# Altium integrated library EMC_FE_2016.IntLib: 13 symbols
Pins are listed as number, name and electrical type; pins without a type are passive.

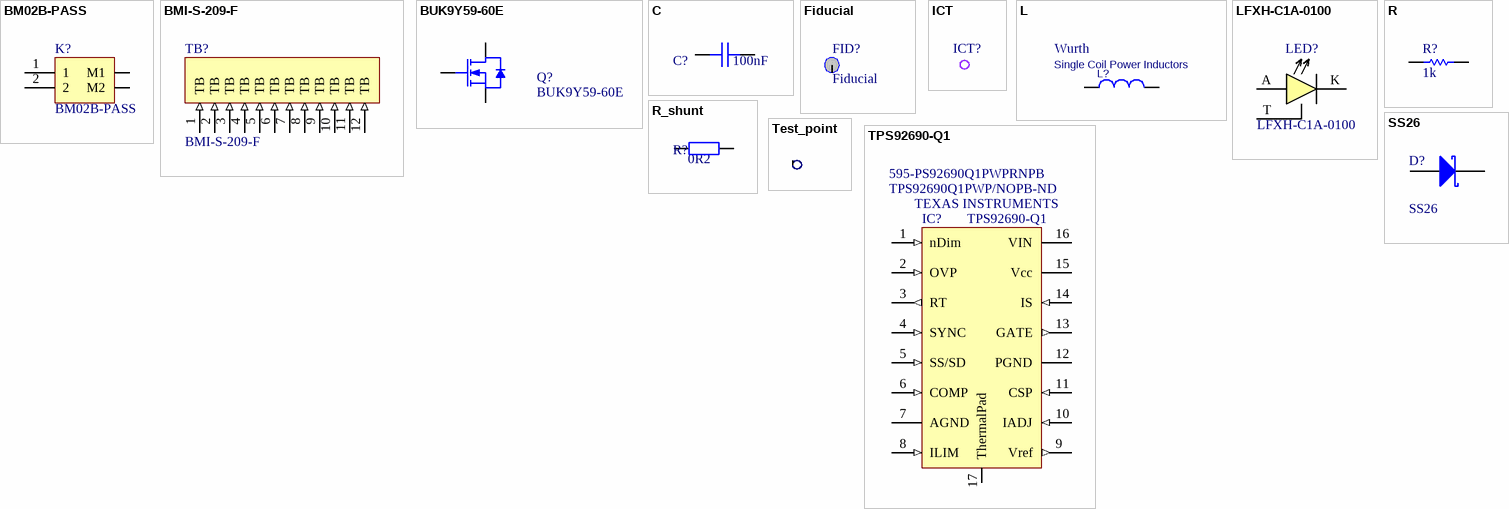
[diagram p0: symbols BM02B-PASS to TPS92690-Q1]

## BM02B-PASS
designator K?
Wire-To-Board Connector, PA Series, Surface Mount, Header, 2, 2 mm, Tin Plated Contacts; Manufacturer: JST (JAPAN SOLDERLESS TERMINALS); Manufacturer Part Number: BM02B-PASS-1-TFT(LF)(SN); No. of Contacts: 2; No. of Rows: 1; Contact Termination: Surface Mount Vertical; Supplier 1: Farnell; RoHS: YES; Product Range: PA Series; Gender: Header; Pitch Spacing: 2; Contact Plating: Tin Plated Contacts; Contact Material: Copper; ComponentLink1URL: http://www.farnell.com/datasheets/1759149.pdf; ComponentLink1Description: Datasheet; Supplier Part Number 1: 2399305
footprint BM02B-PASS (2.0mm pitch/Wire-to-board (Crimp style/IDC))
pins: 1 (power), 2 (power), M1 (power), M2 (power)

## BMI-S-209-F
designator TB?
SURFACE MOUNT,  EMI SHIELD; Manufacturer: LAIRD TECHNOLOGIES; Manufacturer Part Number: BMI-S-209-F; RoHS: YES; ComponentLink1URL: http://www.lairdtech.com/brandworld/library/Board%20Level%20Shields%20Catalog%20Download.pdf; ComponentLink1Description: Datasheet; Supplier 1: Digi-Key; Supplier 2: Digi-Key; Supplier 3: Mouser; Supplier Part Number 1: 903-1185-ND; Supplier Part Number 2: 903-1212-1-ND; Supplier Part Number 3: 739-BMIS-209-F
footprint BMI-S-209-F (Shield)
pins: 1 TB (in) "Connect resistor divider from VIN to set UVLO threshold and hysteresis. Connect through diode or MOSFET to PWM dim concurrently.", 2 TB (in) "Connect resistor divider from VIN to set UVLO threshold and hysteresis. Connect through diode or MOSFET to PWM dim concurrently.", 3 TB (in) "Connect resistor divider from VIN to set UVLO threshold and hysteresis. Connect through diode or MOSFET to PWM dim concurrently.", 4 TB (in) "Connect resistor divider from VIN to set UVLO threshold and hysteresis. Connect through diode or MOSFET to PWM dim concurrently.", 5 TB (in) "Connect resistor divider from VIN to set UVLO threshold and hysteresis. Connect through diode or MOSFET to PWM dim concurrently.", 6 TB (in) "Connect resistor divider from VIN to set UVLO threshold and hysteresis. Connect through diode or MOSFET to PWM dim concurrently.", 7 TB (in) "Connect resistor divider from VIN to set UVLO threshold and hysteresis. Connect through diode or MOSFET to PWM dim concurrently.", 8 TB (in) "Connect resistor divider from VIN to set UVLO threshold and hysteresis. Connect through diode or MOSFET to PWM dim concurrently.", 9 TB (in) "Connect resistor divider from VIN to set UVLO threshold and hysteresis. Connect through diode or MOSFET to PWM dim concurrently.", 10 TB (in) "Connect resistor divider from VIN to set UVLO threshold and hysteresis. Connect through diode or MOSFET to PWM dim concurrently.", 11 TB (in) "Connect resistor divider from VIN to set UVLO threshold and hysteresis. Connect through diode or MOSFET to PWM dim concurrently.", 12 TB (in) "Connect resistor divider from VIN to set UVLO threshold and hysteresis. Connect through diode or MOSFET to PWM dim concurrently."

## BUK9Y59-60E
designator Q?
N-MOS, 16.7A, 60V, 0.044 ohm, 10V, 1.7V; Manufacturer: NXP; Transistor Polarity: N Channel; Continuous Drain Current Id: 16.7; Drain Source Voltage Vds: 60; On Resistance Rds(on): 0.044; Rds(on) Test Voltage Vgs: 10; Threshold Voltage Vgs: 1.7; Power Dissipation Pd: 37; Transistor Case Style: SOT-669; No. of Pins: 4; SVHC: No SVHC (15-Jun-2015); Supplier 1: Farnell; Manufacturer Part Number: BUK9Y59-60E; RoHS: Y-EX; Pricing 1: 1=0,74, 25=0,673, 100=0,476, 250=0,398, 500=0,348, 1000=0,316, 2000=0,285, 6000=0,254 (EUR); Operating Temperature Max: 175; MSL: MSL 1 - Unlimited; Operating Temperature Min: -55; ComponentLink1URL: http://www.farnell.com/datasheets/1705534.pdf; ComponentLink1Description: http://www.farnell.com/datasheets/1705534.pdf; Supplier Part Number 1: 2319900
footprint LFPAK56 (SOT-669, 5-Pads, Body 5,15x5,86mm (max), IPC High Density)
pins: D, G, S

## C
designator C?, comment 100nF
Capacitor; Published: 8-Jun-2000; LatestRevisionDate: 17-Jul-2002; LatestRevisionNote: Re-released for DXP Platform.; PackageReference: RAD-0.3; Publisher: Altium Limited; Value: 100nF
simulation model CAP (Capacitor)
signal-integrity model Cap
footprint C1210
footprint C0805
footprint C1206
footprint C0603
pins: 1, 2

## Fiducial
designator FID?
according to IPC-7351 - is a 1mm diameter round dot with 2mm solder mask opening
footprint Fiducial
pins: F (power)

## ICT
designator ICT?  (value not drawn)
Alignmnt holes for In Circuit Testing; ComponentLink2Description: Designing for Testing; ComponentLink1URL: http://ttci.info/dft-guidelines.html; ComponentLink2URL: http://www.checksum.com/PDFs/PCB_Design_Guidelines_for_ICT.pdf; ComponentLink1Description: In Circuit Testing
footprint ICT_19

## L
designator L?, comment ComponentLink1Description: Wurth  (hidden comment: Single Coil Power Inductors)
L; ComponentLink1URL: http://www.we-online.com/web/en/electronic_components/toolbox_pbs/Altium_Designer.php; Value: Single Coil Power Inductors
footprint R0805
footprint L_10.4X10.4
pins: 1, 2

## LFXH-C1A-0100
designator LED?
high-power, 1.9mm x 2.3mm LED, Cool White; Manufacturer: LUMILEDS; Product Range: LUXEON F Series; CCT Typ: 5800K; Luminous Flux @ Test: 186; Forward Current @ Test: 350; Forward Current If Max: 700; Forward Voltage @ Test: 2.77; Viewing Angle: 118°; LED Mounting: SMD; No. of Pins: 3; Manufacturer Part Number: LFXH-C1A-0100; RoHS: YES; LED Colour: Cool White; Operating Temperature Max: 120; Operating Temperature Min: -40; Operating Temperature Range: -40°C to +120; ComponentLink1URL: http://www.farnell.com/datasheets/2012672.pdf; ComponentLink1Description: Datasheet
footprint LUXEON_F_CW
pins: A (power), K (power), T (power)

## R
designator R?, comment 1k
Resistor; Published: 8-Jun-2000; LatestRevisionDate: 17-Jul-2002; LatestRevisionNote: Re-released for DXP Platform.; PackageReference: AXIAL-0.3; Publisher: Altium Limited; Value: 1k
simulation model RESISTOR (Resistor)
signal-integrity model Res
footprint R0603
footprint R0805
pins: 1, 2

## R_shunt
designator R?, comment 0R2
Resistor; Value: 0R2
simulation model RESISTOR (Resistor)
signal-integrity model Res
footprint R0805
footprint R1210_wide
pins: 1, 2

## SS26
designator D?
Schottky Diode 2A; Manufacturer: VISHAY; Manufacturer Part Number: SS26-E3/52T.; Diode Configuration: Single; Repetitive Reverse Voltage Vrrm Max: 60; Forward Current If(AV): 2; Diode Case Style: DO-214; Forward Voltage VF Max: 700; Forward Surge Current Ifsm Max: 75; Supplier 1: Farnell; RoHS: Y-EX; Stock 1: 5525; Pricing 1: 5=0,219, 50=0,185, 250=0,181, 500=0,1604, 1500=0,1573 (EUR); No. of Pins: 2; Operating Temperature Max: 150; Packaging: Cut Tape; Diode Type: Schottky; MSL: MSL 1 - Unlimited; Operating Temperature Min: -65; Operating Temperature Range: -65°C to +150; ComponentLink1URL: http://www.vishay.com/docs/88869/packagin.pdf; ComponentLink1Description: http://www.vishay.com/docs/88869/packagin.pdf; ComponentLink2URL: http://www.farnell.com/datasheets/1776167.pdf; ComponentLink2Description: http://www.farnell.com/datasheets/1776167.pdf; Supplier Part Number 1: 2101193
footprint DO-214AA
pins: A, K

## Test_point
designator TP?, comment TP  (value not drawn)  (no BOM)
In-circuit test probe contact; Supplier 1: Farnell; ComponentLink1URL: http://www.farnell.com/datasheets/1680275.pdf; ComponentLink1Description: Datasheet; ComponentLink2Description: Altium test point system; ComponentLink2URL: https://techdocs.altium.com/display/ADOH/Testpoint+System; Supplier Part Number 1: 1568262
footprint Test_point_14
pins: T

## TPS92690-Q1
designator IC?  Manufacturer: TEXAS INSTRUMENTS  Supplier Part Number 1: TPS92690Q1PWP/NOPB-ND  Supplier Part Number 2: 595-PS92690Q1PWPRNPB
N-Channel Controller for Dimmable LED Drives With Low-Side Current Sense; Device Topology: Boost, Cuk, Flyback, SEPIC; Output Current Max: 5A; Output Voltage: 75; Driver Case Style: TSSOP; No. of Pins: 16; Input Voltage Min: 4.5; Dimming Control Type: Analogue, PWM; Input Voltage: 4.5V to 75; LED Driver Application: Automotive, General Illumination; Manufacturer Part Number: TPS92690-Q1; RoHS: YES; Input Voltage Max: 75; Operating Temperature Min: -40; Operating Temperature Max: 150; Operating Temperature Range: -40°C to +150; ComponentLink1URL: http://www.ti.com/lit/ds/symlink/tps92690-q1.pdf; ComponentLink1Description: Datasheet; Supplier 1: Digi-Key; Supplier 2: Mouser
footprint MXA16A_N (TSOP, 16-Leads, Body 5x4.4mm, Pitch 0.65mm, Thermal Pad, IPC Medium Density)
footprint MXA16A_L (TSOP, 16-Leads, Body 5x4.4mm, Pitch 0.65mm, Thermal Pad, IPC High Density)
footprint MXA16A_M (TSOP, 16-Leads, Body 5x4.4mm, Pitch 0.65mm, Thermal Pad, IPC Low Density)
pins: 1 nDim (in) "Connect resistor divider from VIN to set UVLO threshold and hysteresis. Connect through diode or MOSFET to PWM dim concurrently.", 2 OVP (in) "Connect resistor divider from output voltage to set OVP threshold and hysteresis.", 3 RT (out) "Connect resistor to AGND to set base switching frequency.", 4 SYNC (in) "If tied to ground, internal oscillator is used.", 5 SS/SD (in) "Connect capacitor to AGND to set soft-start delay. Pull pin below 75 mV for low-power shutdown.", 6 COMP (in) "Connect ceramic capacitor to GND to set loop compensation.", 7 AGND (power) "Connect to PGND through DAP exposed thermal pad for proper ground return path.", 8 ILIM (in) "Connect resistor divider from VREF to set current limit threshold voltage at IS pin.", 9 Vref (out) "Connect to the IADJ pin directly or through resistor divider. Bypass with 100-nF ceramic capacitor to AGND.", 10 IADJ (in) "Connect resistor divider from VREF to set error amplifier reference voltage.", 11 CSP (in) "Connect to positive terminal of sense resistor in series with LED stack.", 12 PGND (power) "Connect to AGND through the exposed thermal pad for proper ground return path.", 13 GATE (out) "Connect to main N-channel MOSFET gate of switching converter.", 14 IS (in) "Connect to drain of main N-channel MOSFET or to source of MOSFET if sense resistor is used for improved accuracy.", 15 Vcc (power) "Bypass with 2.2-µF ceramic capacitor to provide bias supply for controller.", 16 VIN (power) "Connect to input supply of converter. Bypass with 100-nF ceramic capacitor to AGND as close to the device as possible.", 17 ThermalPad (power) "Thermal Pad. Connect to GND"